# EAGLE library part AD8351 (library NewSDR)
Analog Devices Low Distortion Differential RF/IF Amplifier
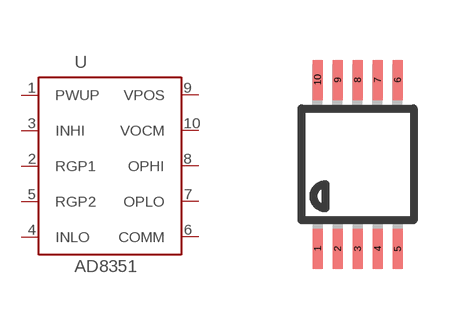
[diagram p201: symbol with the pads of MSOP10; footprint MSOP10]

Designator prefix U

## AD8351  [MSOP10]
1  PWUP  in
2  RGP1  pas
3  INHI  pas
4  INLO  pas
5  RGP2  pas
6  COMM  pwr
7  OPLO  pas
8  OPHI  pas
9  VPOS  pwr
10  VOCM  pwr

## Footprint MSOP10 (pad centres in mm)
10-Lead Mini Small Outline Package [MSOP] (RM-10) Source: http://www.analog.com/UploadedFiles/Data_Sheets/35641221898805SSM2167_b.pdf COMPLIANT TO JEDEC STANDARDS MO-187BA
smd 0.25 x 1: 1 -1,-2.113; 2 -0.5,-2.113; 3 0,-2.113; 4 0.5,-2.113; 5 1,-2.113; 6 1,2.113; 7 0.5,2.113; 8 0,2.113; 9 -0.5,2.113; 10 -1,2.113